# Altium footprint library RK3288-MID.PcbLib: 55 footprints (part 1 of 4)
Each footprint in its own frame and in the unit in brackets; x right, y up, seen from the top. Pads: shape width x height; smd on the part's side, far side on the other; paste and mask are expansions set on the pad; w line width, h text height; cw(c..) or ccw(c..) is an arc to the next point about the centre after c.
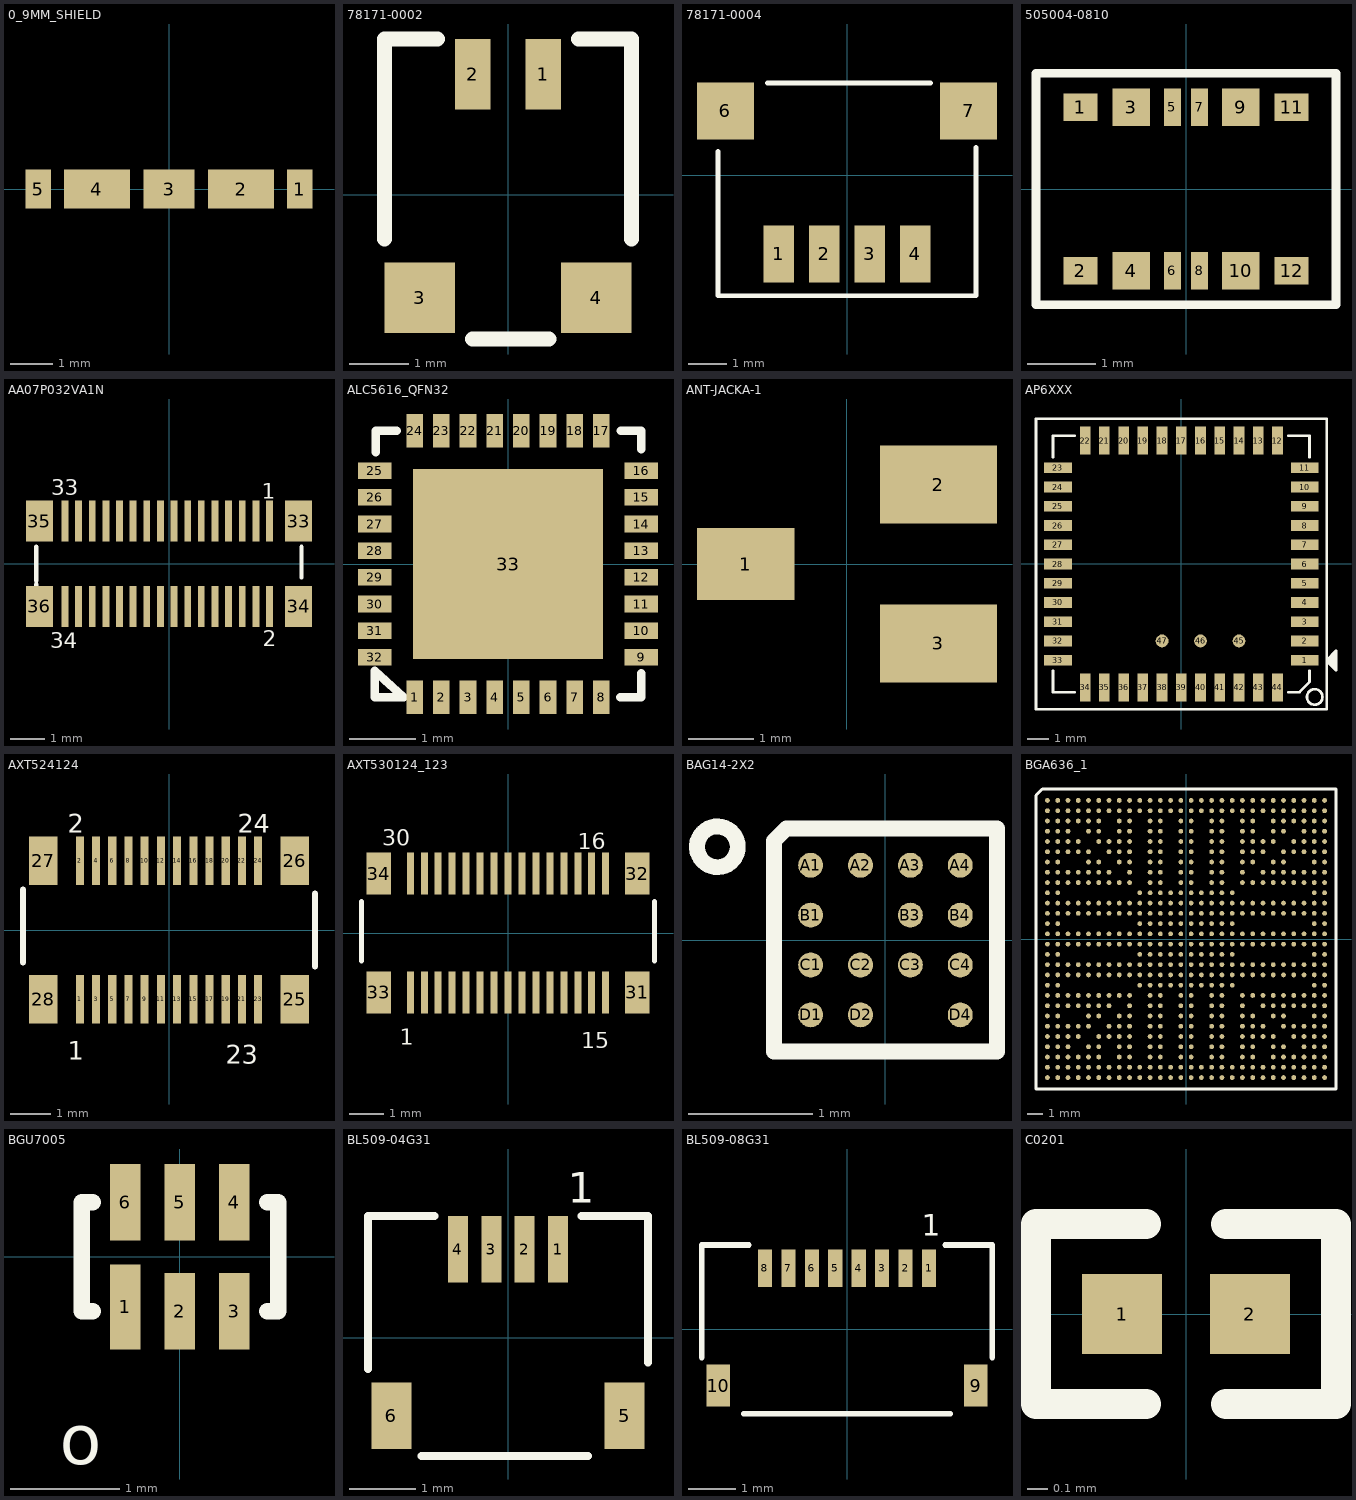
[diagram p0: the footprints below, top view; thin cyan lines are the x and y axes]

## 0_9MM_SHIELD [mm] "0_9MM_SHIELD"
pads (5):
  rect 0.6x0.9 smd: 1(3.05,0) 5(-3.05,0)
  rect 1.55x0.9 smd: 2(1.68,0) 4(-1.68,0)
  rect 1.2x0.9 smd: 3(0,0)

## 78171-0002 [mm] "78171-0002"
pads (4):
  rect 0.6x1.2 smd: 1(0.6,2.05) 2(-0.6,2.05)
  rect 1.2x1.2 smd: 3(-1.5,-1.75) 4(1.5,-1.75)
Top Overlay:
  lines w0.254: -2.1,-0.75 -2.1,2.65 -1.2,2.65 ; -0.6,-2.45 0.7,-2.45 ; 1.2,2.65 2.1,2.65 2.1,-0.75

## 78171-0004 [mm] "78171-0004"
pads (6):
  rect 0.8x1.5 smd: 1(-1.8,-2.066) 2(-0.6,-2.066) 3(0.6,-2.066) 4(1.8,-2.066)
  rect 1.5x1.5 smd: 6(-3.2,1.704) 7(3.2,1.704)
Top Overlay:
  lines w0.127: -3.4,0.634 -3.4,-3.166 3.4,-3.166 3.4,0.734 ; -2.1,2.434 2.2,2.434

## 505004-0810 [mm] "505004-0810"
pads (12):
  rect 0.5x0.4 smd: 1(-1.55,1.2) 2(-1.55,-1.2) 11(1.55,1.2) 12(1.55,-1.2)
  rect 0.55x0.55 smd: 3(-0.8,1.2) 4(-0.8,-1.2) 9(0.8,1.2) 10(0.8,-1.2)
  rect 0.25x0.55 smd: 5(-0.2,1.2) 6(-0.2,-1.2) 7(0.2,1.2) 8(0.2,-1.2)
Top Overlay:
  lines w0.127: -2.2,-1.7 -2.2,1.7 2.2,1.7 2.2,-1.7 -2.2,-1.7

## AA07P032VA1N [mm] "AA07P032VA1N"
pads (36):
  rect 0.2x1.2 smd: 1(2.948,1.25) 2(2.948,-1.25) 3(2.548,1.25) 4(2.548,-1.25) 5(2.148,1.25) 6(2.148,-1.25) 7(1.748,1.25) 8(1.748,-1.25) 9(1.348,1.25) 10(1.348,-1.25) 11(0.948,1.25) 12(0.948,-1.25) 13(0.548,1.25) 14(0.548,-1.25) 15(0.148,1.25) 16(0.148,-1.25) 17(-0.252,1.25) 18(-0.252,-1.25) 19(-0.652,1.25) 20(-0.652,-1.25) 21(-1.052,1.25) 22(-1.052,-1.25) 23(-1.452,1.25) 24(-1.452,-1.25) 25(-1.852,1.25) 26(-1.852,-1.25) 27(-2.252,1.25) 28(-2.252,-1.25) 29(-2.652,1.25) 30(-2.652,-1.25) 31(-3.052,1.25) 32(-3.052,-1.25)
  rect 0.8x1.2 smd: 33(3.8,1.25) 34(3.8,-1.25) 35(-3.8,1.25) 36(-3.8,-1.25)
Top Overlay:
  lines w0.127: -3.889,-1.64 -3.889,-0.6 ; -3.889,-0.5 -3.889,0.5 ; 3.889,-0.4 3.889,0.5
  text "1" at 2.714,1.91 h0.46
  text "34" at -3.484,-2.484 h0.46
  text "33" at -3.46,2.015 h0.46
  text "2" at 2.748,-2.424 h0.46

## ALC5616_QFN32 [mm] "ALC5616_QFN32"
pads (33):
  rect 0.25x0.5 smd: 1(-1.4,-2) 2(-1,-2) 3(-0.6,-2) 4(-0.2,-2) 5(0.2,-2) 6(0.6,-2) 7(1,-2) 8(1.4,-2) 17(1.4,2) 18(1,2) 19(0.6,2) 20(0.2,2) 21(-0.2,2) 22(-0.6,2) 23(-1,2) 24(-1.4,2)
  rect 0.5x0.25 smd: 9(2,-1.4) 10(2,-1) 11(2,-0.6) 12(2,-0.2) 13(2,0.2) 14(2,0.6) 15(2,1) 16(2,1.4) 25(-2,1.4) 26(-2,1) 27(-2,0.6) 28(-2,0.2) 29(-2,-0.2) 30(-2,-0.6) 31(-2,-1) 32(-2,-1.4)
  rect 2.85x2.85 smd: 33(0,0)
Top Overlay:
  lines w0.127: -1.987,1.677 -1.987,2 -1.671,2 ; 1.687,-2 2,-2 2,-1.642 ; 1.69,2 2,2 2,1.72 ; -2,-2 -1.564,-2 -2,-1.599 -2,-2

## ANT-JACKA-1 [mm] "ANT-JACKA-1"
pads (3):
  rect 1.5x1.1 smd: 1(-1.557,0)
  rect 1.8x1.2 smd: 2(1.407,1.22) 3(1.407,-1.22)

## AP6XXX [mm] "AP6XXX"
pads (47):
  rect 1.3x0.5 smd: 1(5.775,-4.5) 2(5.775,-3.6) 3(5.775,-2.7) 4(5.775,-1.8) 5(5.775,-0.9) 6(5.775,0) 7(5.775,0.9) 8(5.775,1.8) 9(5.775,2.7) 10(5.775,3.6) 11(5.775,4.5) 23(-5.775,4.5) 24(-5.775,3.6) 25(-5.775,2.7) 26(-5.775,1.8) 27(-5.775,0.9) 28(-5.775,0) 29(-5.775,-0.9) 30(-5.775,-1.8) 31(-5.775,-2.7) 32(-5.775,-3.6) 33(-5.775,-4.5)
  rect 0.5x1.3 smd: 12(4.5,5.775) 13(3.6,5.775) 14(2.7,5.775) 15(1.8,5.775) 16(0.9,5.775) 17(0,5.775) 18(-0.9,5.775) 19(-1.8,5.775) 20(-2.7,5.775) 21(-3.6,5.775) 22(-4.5,5.775) 34(-4.5,-5.775) 35(-3.6,-5.775) 36(-2.7,-5.775) 37(-1.8,-5.775) 38(-0.9,-5.775) 39(0,-5.775) 40(0.9,-5.775) 41(1.8,-5.775) 42(2.7,-5.775) 43(3.6,-5.775) 44(4.5,-5.775)
  round 0.6 smd: 45(2.7,-3.6) 46(0.9,-3.6) 47(-0.9,-3.6)
Top Overlay:
  circle w0.127: c6.244,-6.222 r0.363
  lines w0.127: -6,-5 -6,-6 -5,-6 ; -6,5 -6,6 -5,6 ; 5,-6 5.526,-6 6,-5.526 6,-5 ; 5,6 6,6 6,5 ; 6.802,-4.534 7.239,-4.971 7.239,-4.056 6.809,-4.486 ; 6.844,-4.51 7.011,-4.51 ; 6.979,-4.595 6.979,-4.389 ; 7.064,-4.756 7.064,-4.31 ; 7.149,-4.8 7.149,-4.246 ; -6.8,-6.8 6.8,-6.8 6.8,6.8 -6.8,6.8 -6.8,-6.8

## AXT524124 [mm] "AXT524124"
pads (28):
  rect 0.2x1.2 smd: 1(-2.2,-1.705) 2(-2.2,1.705) 3(-1.8,-1.705) 4(-1.8,1.705) 5(-1.4,-1.705) 6(-1.4,1.705) 7(-1,-1.705) 8(-1,1.705) 9(-0.6,-1.705) 10(-0.6,1.705) 11(-0.2,-1.705) 12(-0.2,1.705) 13(0.2,-1.705) 14(0.2,1.705) 15(0.6,-1.705) 16(0.6,1.705) 17(1,-1.705) 18(1,1.705) 19(1.4,-1.705) 20(1.4,1.705) 21(1.8,-1.705) 22(1.8,1.705) 23(2.2,-1.705) 24(2.2,1.705)
  rect 0.7x1.2 smd: 25(3.1,-1.705) 26(3.1,1.705) 27(-3.1,1.705) 28(-3.1,-1.705)
Top Overlay:
  lines w0.15: -3.6,-0.8 -3.6,1 ; 3.6,-0.9 3.6,0.9
  text "24" at 1.7,2.4 h0.46
  text "2" at -2.5,2.4 h0.46
  text "23" at 1.4,-3.3 h0.46
  text "1" at -2.5,-3.2 h0.46

## AXT530124_123 [mm] "AXT530124_123"
pads (34):
  rect 0.2x1.2 smd: 1(-2.8,-1.705) 2(-2.4,-1.705) 3(-2,-1.705) 4(-1.6,-1.705) 5(-1.2,-1.705) 6(-0.8,-1.705) 7(-0.4,-1.705) 8(0,-1.705) 9(0.4,-1.705) 10(0.8,-1.705) 11(1.2,-1.705) 12(1.6,-1.705) 13(2,-1.705) 14(2.4,-1.705) 15(2.8,-1.705) 16(2.8,1.705) 17(2.4,1.705) 18(2,1.705) 19(1.6,1.705) 20(1.2,1.705) 21(0.8,1.705) 22(0.4,1.705) 23(0,1.705) 24(-0.4,1.705) 25(-0.8,1.705) 26(-1.2,1.705) 27(-1.6,1.705) 28(-2,1.705) 29(-2.4,1.705) 30(-2.8,1.705)
  rect 0.7x1.2 smd: 31(3.7,-1.705) 32(3.7,1.705) 33(-3.7,-1.705) 34(-3.7,1.705)
Top Overlay:
  lines w0.15: -4.2,-0.8 -4.2,0.9 ; 4.2,-0.8 4.2,0.9
  text "30" at -3.6,2.5 h0.46
  text "16" at 2,2.4 h0.46
  text "15" at 2.1,-3.3 h0.46
  text "1" at -3.1,-3.2 h0.46

## BAG14-2X2 [mm] "BAG14-2X2"
pads (14):
  round 0.2 smd: A1(-0.6,0.6) A2(-0.2,0.6) A3(0.2,0.6) A4(0.6,0.6) B1(-0.6,0.2) B3(0.2,0.2) B4(0.6,0.2) C1(-0.6,-0.2) C2(-0.2,-0.2) C3(0.2,-0.2) C4(0.6,-0.2) D1(-0.6,-0.6) D2(-0.2,-0.6) D4(0.6,-0.6)
Top Overlay:
  circle w0.127: c-1.348,0.748 r0.164
  lines w0.127: -0.895,-0.895 -0.895,0.795 -0.795,0.895 0.895,0.895 0.895,-0.895 -0.895,-0.895

## BGA636_1 [mm] "BGA636_1"
pads (636):
  round 0.3 smd: A1(-8.775,8.775) A2(-8.125,8.775) A3(-7.475,8.775) A4(-6.825,8.775) A5(-6.175,8.775) A6(-5.525,8.775) A7(-4.875,8.775) A8(-4.225,8.775) A9(-3.575,8.775) A10(-2.925,8.775) A11(-2.275,8.775) A12(-1.625,8.775) A13(-0.975,8.775) A14(-0.325,8.775) A15(0.325,8.775) A16(0.975,8.775) A17(1.625,8.775) A18(2.275,8.775) A19(2.925,8.775) A20(3.575,8.775) A21(4.225,8.775) A22(4.875,8.775) A23(5.525,8.775) A24(6.175,8.775) A25(6.825,8.775) A26(7.475,8.775) A27(8.125,8.775) A28(8.775,8.775) AA1(-8.775,-4.225) AA2(-8.125,-4.225) AA3(-7.475,-4.225) AA4(-6.825,-4.225) AA5(-6.175,-4.225) AA6(-5.525,-4.225) AA7(-4.875,-4.225) AA9(-3.575,-4.225) AA11(-2.275,-4.225) AA12(-1.625,-4.225) AA14(-0.325,-4.225) AA15(0.325,-4.225) AA17(1.625,-4.225) AA18(2.275,-4.225) AA20(3.575,-4.225) AA22(4.875,-4.225) AA23(5.525,-4.225) AA24(6.175,-4.225) AA25(6.825,-4.225) AA26(7.475,-4.225) AA27(8.125,-4.225) AA28(8.775,-4.225) AB1(-8.775,-4.875) AB2(-8.125,-4.875) AB5(-6.175,-4.875) AB6(-5.525,-4.875) AB8(-4.225,-4.875) AB9(-3.575,-4.875) AB11(-2.275,-4.875) AB12(-1.625,-4.875) AB14(-0.325,-4.875) AB15(0.325,-4.875) AB17(1.625,-4.875) AB18(2.275,-4.875) AB20(3.575,-4.875) AB21(4.225,-4.875) AB23(5.525,-4.875) AB24(6.175,-4.875) AB27(8.125,-4.875) AB28(8.775,-4.875) AC1(-8.775,-5.525) AC2(-8.125,-5.525) AC3(-7.475,-5.525) AC4(-6.825,-5.525) AC5(-6.175,-5.525) AC7(-4.875,-5.525) AC8(-4.225,-5.525) AC9(-3.575,-5.525) AC11(-2.275,-5.525) AC12(-1.625,-5.525) AC14(-0.325,-5.525) AC15(0.325,-5.525) AC17(1.625,-5.525) AC18(2.275,-5.525) AC20(3.575,-5.525) AC21(4.225,-5.525) AC22(4.875,-5.525) AC24(6.175,-5.525) AC25(6.825,-5.525) AC26(7.475,-5.525) AC27(8.125,-5.525) AC28(8.775,-5.525) AD1(-8.775,-6.175) AD2(-8.125,-6.175) AD3(-7.475,-6.175) AD4(-6.825,-6.175) AD6(-5.525,-6.175) AD7(-4.875,-6.175) AD8(-4.225,-6.175) AD9(-3.575,-6.175) AD11(-2.275,-6.175) AD12(-1.625,-6.175) AD14(-0.325,-6.175) AD15(0.325,-6.175) AD17(1.625,-6.175) AD18(2.275,-6.175) AD20(3.575,-6.175) AD21(4.225,-6.175) AD22(4.875,-6.175) AD23(5.525,-6.175) AD25(6.825,-6.175) AD26(7.475,-6.175) AD27(8.125,-6.175) AD28(8.775,-6.175) AE1(-8.775,-6.825) AE2(-8.125,-6.825) AE3(-7.475,-6.825) AE5(-6.175,-6.825) AE6(-5.525,-6.825) AE8(-4.225,-6.825) AE9(-3.575,-6.825) AE11(-2.275,-6.825) AE12(-1.625,-6.825) AE14(-0.325,-6.825) AE15(0.325,-6.825) AE17(1.625,-6.825) AE18(2.275,-6.825) AE20(3.575,-6.825) AE21(4.225,-6.825) AE23(5.525,-6.825) AE24(6.175,-6.825) AE26(7.475,-6.825) AE27(8.125,-6.825) AE28(8.775,-6.825) AF1(-8.775,-7.475) AF2(-8.125,-7.475) AF3(-7.475,-7.475) AF4(-6.825,-7.475) AF5(-6.175,-7.475) AF6(-5.525,-7.475) AF8(-4.225,-7.475) AF9(-3.575,-7.475) AF11(-2.275,-7.475) AF12(-1.625,-7.475) AF14(-0.325,-7.475) AF15(0.325,-7.475) AF17(1.625,-7.475) AF18(2.275,-7.475) AF20(3.575,-7.475) AF21(4.225,-7.475) AF23(5.525,-7.475) AF24(6.175,-7.475) AF25(6.825,-7.475) AF26(7.475,-7.475) AF27(8.125,-7.475) AF28(8.775,-7.475) AG1(-8.775,-8.125) AG2(-8.125,-8.125) AG3(-7.475,-8.125) AG4(-6.825,-8.125) AG5(-6.175,-8.125) AG6(-5.525,-8.125) AG7(-4.875,-8.125) AG8(-4.225,-8.125) AG9(-3.575,-8.125) AG10(-2.925,-8.125) AG11(-2.275,-8.125) AG12(-1.625,-8.125) AG13(-0.975,-8.125) AG14(-0.325,-8.125) AG15(0.325,-8.125) AG16(0.975,-8.125) AG17(1.625,-8.125) AG18(2.275,-8.125) AG19(2.925,-8.125) AG20(3.575,-8.125) AG21(4.225,-8.125) AG22(4.875,-8.125) AG23(5.525,-8.125) AG24(6.175,-8.125) AG25(6.825,-8.125) AG26(7.475,-8.125) AG27(8.125,-8.125) AG28(8.775,-8.125) AH1(-8.775,-8.775) AH2(-8.125,-8.775) AH3(-7.475,-8.775) AH4(-6.825,-8.775) AH5(-6.175,-8.775) AH6(-5.525,-8.775) AH7(-4.875,-8.775) AH8(-4.225,-8.775) AH9(-3.575,-8.775) AH10(-2.925,-8.775) AH11(-2.275,-8.775) AH12(-1.625,-8.775) AH13(-0.975,-8.775) AH14(-0.325,-8.775) AH15(0.325,-8.775) AH16(0.975,-8.775) AH17(1.625,-8.775) AH18(2.275,-8.775) AH19(2.925,-8.775) AH20(3.575,-8.775) AH21(4.225,-8.775) AH22(4.875,-8.775) AH23(5.525,-8.775) AH24(6.175,-8.775) AH25(6.825,-8.775) AH26(7.475,-8.775) AH27(8.125,-8.775) AH28(8.775,-8.775) B1(-8.775,8.125) B2(-8.125,8.125) B3(-7.475,8.125) B4(-6.825,8.125) B5(-6.175,8.125) B6(-5.525,8.125) B7(-4.875,8.125) B8(-4.225,8.125) B9(-3.575,8.125) B10(-2.925,8.125) B11(-2.275,8.125) B12(-1.625,8.125) B13(-0.975,8.125) B14(-0.325,8.125) B15(0.325,8.125) B16(0.975,8.125) B17(1.625,8.125) B18(2.275,8.125) B19(2.925,8.125) B20(3.575,8.125) B21(4.225,8.125) B22(4.875,8.125) B23(5.525,8.125) B24(6.175,8.125) B25(6.825,8.125) B26(7.475,8.125) B27(8.125,8.125) B28(8.775,8.125) C1(-8.775,7.475) C2(-8.125,7.475) C3(-7.475,7.475) C4(-6.825,7.475) C5(-6.175,7.475) C6(-5.525,7.475) C8(-4.225,7.475) C9(-3.575,7.475) C11(-2.275,7.475) C12(-1.625,7.475) C14(-0.325,7.475) C15(0.325,7.475) C17(1.625,7.475) C18(2.275,7.475) C20(3.575,7.475) C21(4.225,7.475) C23(5.525,7.475) C24(6.175,7.475) C25(6.825,7.475) C26(7.475,7.475) C27(8.125,7.475) C28(8.775,7.475) D1(-8.775,6.825) D2(-8.125,6.825) D3(-7.475,6.825) D5(-6.175,6.825) D6(-5.525,6.825) D8(-4.225,6.825) D9(-3.575,6.825) D11(-2.275,6.825) D12(-1.625,6.825) D14(-0.325,6.825) D15(0.325,6.825) D17(1.625,6.825) D18(2.275,6.825) D20(3.575,6.825) D21(4.225,6.825) D23(5.525,6.825) D24(6.175,6.825) D26(7.475,6.825) D27(8.125,6.825) D28(8.775,6.825) E1(-8.775,6.175) E2(-8.125,6.175) E3(-7.475,6.175) E4(-6.825,6.175) E6(-5.525,6.175) E7(-4.875,6.175) E8(-4.225,6.175) E9(-3.575,6.175) E11(-2.275,6.175) E12(-1.625,6.175) E14(-0.325,6.175) E15(0.325,6.175) E17(1.625,6.175) E18(2.275,6.175) E20(3.575,6.175) E21(4.225,6.175) E22(4.875,6.175) E23(5.525,6.175) E25(6.825,6.175) E26(7.475,6.175) E27(8.125,6.175) E28(8.775,6.175) F1(-8.775,5.525) F2(-8.125,5.525) F3(-7.475,5.525) F4(-6.825,5.525) F5(-6.175,5.525) F7(-4.875,5.525) F8(-4.225,5.525) F9(-3.575,5.525) F11(-2.275,5.525) F12(-1.625,5.525) F14(-0.325,5.525) F15(0.325,5.525) F17(1.625,5.525) F18(2.275,5.525) F20(3.575,5.525) F21(4.225,5.525) F22(4.875,5.525) F24(6.175,5.525) F25(6.825,5.525) F26(7.475,5.525) F27(8.125,5.525) F28(8.775,5.525) G1(-8.775,4.875) G2(-8.125,4.875) G5(-6.175,4.875) G6(-5.525,4.875) G8(-4.225,4.875) G9(-3.575,4.875) G11(-2.275,4.875) G12(-1.625,4.875) G14(-0.325,4.875) G15(0.325,4.875) G17(1.625,4.875) G18(2.275,4.875) G20(3.575,4.875) G21(4.225,4.875) G23(5.525,4.875) G24(6.175,4.875) G27(8.125,4.875) G28(8.775,4.875) H1(-8.775,4.225) H2(-8.125,4.225) H3(-7.475,4.225) H4(-6.825,4.225) H5(-6.175,4.225) H6(-5.525,4.225) H7(-4.875,4.225) H9(-3.575,4.225) H11(-2.275,4.225) H12(-1.625,4.225) H14(-0.325,4.225) H15(0.325,4.225) H17(1.625,4.225) H18(2.275,4.225) H20(3.575,4.225) H22(4.875,4.225) H23(5.525,4.225) H24(6.175,4.225) H25(6.825,4.225) H26(7.475,4.225) H27(8.125,4.225) H28(8.775,4.225) J1(-8.775,3.575) J2(-8.125,3.575) J3(-7.475,3.575) J4(-6.825,3.575) J5(-6.175,3.575) J6(-5.525,3.575) J7(-4.875,3.575) J8(-4.225,3.575) J9(-3.575,3.575) J11(-2.275,3.575) J12(-1.625,3.575) J14(-0.325,3.575) J15(0.325,3.575) J17(1.625,3.575) J18(2.275,3.575) J20(3.575,3.575) J21(4.225,3.575) J22(4.875,3.575) J23(5.525,3.575) J24(6.175,3.575) J25(6.825,3.575) J26(7.475,3.575) J27(8.125,3.575) J28(8.775,3.575) K1(-8.775,2.925) K2(-8.125,2.925) K10(-2.925,2.925) K11(-2.275,2.925) K12(-1.625,2.925) K13(-0.975,2.925) K14(-0.325,2.925) K15(0.325,2.925) K16(0.975,2.925) K17(1.625,2.925) K18(2.275,2.925) K19(2.925,2.925) K27(8.125,2.925) K28(8.775,2.925) L1(-8.775,2.275) L2(-8.125,2.275) L3(-7.475,2.275) L4(-6.825,2.275) L5(-6.175,2.275) L6(-5.525,2.275) L7(-4.875,2.275) L8(-4.225,2.275) L9(-3.575,2.275) L10(-2.925,2.275) L11(-2.275,2.275) L12(-1.625,2.275) L13(-0.975,2.275) L14(-0.325,2.275) L15(0.325,2.275) L16(0.975,2.275) L17(1.625,2.275) L18(2.275,2.275) L19(2.925,2.275) L20(3.575,2.275) L21(4.225,2.275) L22(4.875,2.275) L23(5.525,2.275) L24(6.175,2.275) L25(6.825,2.275) L26(7.475,2.275) L27(8.125,2.275) L28(8.775,2.275) M1(-8.775,1.625) M2(-8.125,1.625) M3(-7.475,1.625) M4(-6.825,1.625) M5(-6.175,1.625) M6(-5.525,1.625) M7(-4.875,1.625) M8(-4.225,1.625) M9(-3.575,1.625) M10(-2.925,1.625) M11(-2.275,1.625) M12(-1.625,1.625) M13(-0.975,1.625) M14(-0.325,1.625) M15(0.325,1.625) M16(0.975,1.625) M17(1.625,1.625) M18(2.275,1.625) M19(2.925,1.625) M20(3.575,1.625) M21(4.225,1.625) M22(4.875,1.625) M23(5.525,1.625) M24(6.175,1.625) M25(6.825,1.625) M26(7.475,1.625) M27(8.125,1.625) M28(8.775,1.625) N1(-8.775,0.975) N2(-8.125,0.975) N10(-2.925,0.975) N11(-2.275,0.975) N12(-1.625,0.975) N13(-0.975,0.975) N14(-0.325,0.975) N15(0.325,0.975) N16(0.975,0.975) N17(1.625,0.975) N18(2.275,0.975) N19(2.925,0.975) N27(8.125,0.975) N28(8.775,0.975) P1(-8.775,0.325) P2(-8.125,0.325) P3(-7.475,0.325) P4(-6.825,0.325) P5(-6.175,0.325) P6(-5.525,0.325) P7(-4.875,0.325) P8(-4.225,0.325) P9(-3.575,0.325) P10(-2.925,0.325) P11(-2.275,0.325) P12(-1.625,0.325) P13(-0.975,0.325) P14(-0.325,0.325) P15(0.325,0.325) P16(0.975,0.325) P17(1.625,0.325) P18(2.275,0.325) P19(2.925,0.325) P20(3.575,0.325) P21(4.225,0.325) P22(4.875,0.325) P23(5.525,0.325) P24(6.175,0.325) P25(6.825,0.325) P26(7.475,0.325) P27(8.125,0.325) P28(8.775,0.325) R1(-8.775,-0.325) R2(-8.125,-0.325) R3(-7.475,-0.325) R4(-6.825,-0.325) R5(-6.175,-0.325) R6(-5.525,-0.325) R7(-4.875,-0.325) R8(-4.225,-0.325) R9(-3.575,-0.325) R10(-2.925,-0.325) R11(-2.275,-0.325) R12(-1.625,-0.325) R13(-0.975,-0.325) R14(-0.325,-0.325) R15(0.325,-0.325) R16(0.975,-0.325) R17(1.625,-0.325) R18(2.275,-0.325) R19(2.925,-0.325) R20(3.575,-0.325) R21(4.225,-0.325) R22(4.875,-0.325) R23(5.525,-0.325) R24(6.175,-0.325) R25(6.825,-0.325) R26(7.475,-0.325) R27(8.125,-0.325) R28(8.775,-0.325) T1(-8.775,-0.975) T2(-8.125,-0.975) T10(-2.925,-0.975) T11(-2.275,-0.975) T12(-1.625,-0.975) T13(-0.975,-0.975) T14(-0.325,-0.975) T15(0.325,-0.975) T16(0.975,-0.975) T17(1.625,-0.975) T18(2.275,-0.975) T19(2.925,-0.975) T27(8.125,-0.975) T28(8.775,-0.975) U1(-8.775,-1.625) U2(-8.125,-1.625) U3(-7.475,-1.625) U4(-6.825,-1.625) U5(-6.175,-1.625) U6(-5.525,-1.625) U7(-4.875,-1.625) U8(-4.225,-1.625) U9(-3.575,-1.625) U10(-2.925,-1.625) U11(-2.275,-1.625) U12(-1.625,-1.625) U13(-0.975,-1.625) U14(-0.325,-1.625) U15(0.325,-1.625) U16(0.975,-1.625) U17(1.625,-1.625) U18(2.275,-1.625) U19(2.925,-1.625) U20(3.575,-1.625) U21(4.225,-1.625) U22(4.875,-1.625) U23(5.525,-1.625) U24(6.175,-1.625) U25(6.825,-1.625) U26(7.475,-1.625) U27(8.125,-1.625) U28(8.775,-1.625) V1(-8.775,-2.275) V2(-8.125,-2.275) V3(-7.475,-2.275) V4(-6.825,-2.275) V5(-6.175,-2.275) V6(-5.525,-2.275) V7(-4.875,-2.275) V8(-4.225,-2.275) V9(-3.575,-2.275) V10(-2.925,-2.275) V11(-2.275,-2.275) V12(-1.625,-2.275) V13(-0.975,-2.275) V14(-0.325,-2.275) V15(0.325,-2.275) V16(0.975,-2.275) V17(1.625,-2.275) V18(2.275,-2.275) V19(2.925,-2.275) V20(3.575,-2.275) V21(4.225,-2.275) V22(4.875,-2.275) V23(5.525,-2.275) V24(6.175,-2.275) V25(6.825,-2.275) V26(7.475,-2.275) V27(8.125,-2.275) V28(8.775,-2.275) W1(-8.775,-2.925) W2(-8.125,-2.925) W10(-2.925,-2.925) W11(-2.275,-2.925) W12(-1.625,-2.925) W13(-0.975,-2.925) W14(-0.325,-2.925) W15(0.325,-2.925) W16(0.975,-2.925) W17(1.625,-2.925) W18(2.275,-2.925) W19(2.925,-2.925) W27(8.125,-2.925) W28(8.775,-2.925) Y1(-8.775,-3.575) Y2(-8.125,-3.575) Y3(-7.475,-3.575) Y4(-6.825,-3.575) Y5(-6.175,-3.575) Y6(-5.525,-3.575) Y7(-4.875,-3.575) Y8(-4.225,-3.575) Y9(-3.575,-3.575) Y11(-2.275,-3.575) Y12(-1.625,-3.575) Y14(-0.325,-3.575) Y15(0.325,-3.575) Y17(1.625,-3.575) Y18(2.275,-3.575) Y20(3.575,-3.575) Y21(4.225,-3.575) Y22(4.875,-3.575) Y23(5.525,-3.575) Y24(6.175,-3.575) Y25(6.825,-3.575) Y26(7.475,-3.575) Y27(8.125,-3.575) Y28(8.775,-3.575)
Top Overlay:
  lines w0.2: -9.5,-9.5 9.5,-9.5 9.5,9.5 -9.095,9.5 -9.5,9.095 -9.5,-9.5

## BGU7005 [mm] "BGU7005"
pads (6):
  rect 0.28x0.78 smd: 1(-0.5,-0.46)
  rect 0.28x0.7 smd: 2(0,-0.5) 3(0.5,-0.5) 4(0.5,0.5) 5(0,0.5) 6(-0.5,0.5)
Top Overlay:
  lines w0.15: -0.8,-0.5 -0.9,-0.5 -0.9,0.5 -0.8,0.5 ; 0.8,-0.5 0.9,-0.5 0.9,0.5 0.8,0.5
  text "o" at -1.1,-1.9 h0.46

## BL509-04G31 [mm] "BL509-04G31"
pads (6):
  rect 0.3x1 smd: 1(0.75,1.325) 2(0.25,1.325) 3(-0.25,1.325) 4(-0.75,1.325)
  rect 0.6x1 smd: 5(1.75,-1.175) 6(-1.75,-1.175)
Top Overlay:
  lines w0.12: -2.1,-0.475 -2.1,1.825 -1.1,1.825 ; -1.3,-1.775 1.2,-1.775 ; 1.1,1.825 2.1,1.825 2.1,-0.375
  text "1" at 0.9,2.025 h0.46

## BL509-08G31 [mm] "BL509-08G31"
pads (10):
  rect 0.3x0.8 smd: 1(1.75,1.3) 2(1.25,1.3) 3(0.75,1.3) 4(0.25,1.3) 5(-0.25,1.3) 6(-0.75,1.3) 7(-1.25,1.3) 8(-1.75,1.3)
  rect 0.5x0.9 smd: 9(2.75,-1.2) 10(-2.75,-1.2)
Top Overlay:
  lines w0.12: -3.1,-0.6 -3.1,1.8 -2.1,1.8 ; -2.2,-1.8 2.2,-1.8 ; 2.1,1.8 3.1,1.8 3.1,-0.6
  text "1" at 1.6,2 h0.46

## C0201 [mm] "C0201"
pads (2):
  rect 0.4x0.4 smd: 1(-0.32,0) 2(0.32,0)
Top Overlay:
  lines w0.15: -0.2,-0.45 -0.75,-0.45 -0.75,0.45 -0.2,0.45 ; 0.2,-0.45 0.75,-0.45 0.75,0.45 0.2,0.45